# Altium schematic symbol library antennaS.SchLib: 1 symbol
Pins are listed as number, name and electrical type; pins without a type are passive.

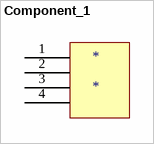
[diagram p0: symbol Component_1]

## Component_1
designator *
footprint ANT_JOHANSON_2450AT43B100E (2.4GHz SMD antenna)
pins: 1 0, 2, 3, 4